# EAGLE library part LT3652 (library cube-sat)
Battery Charger
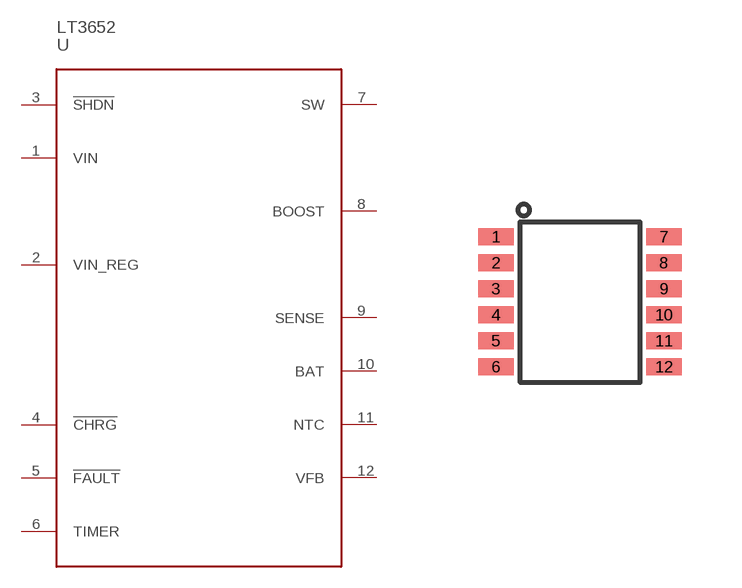
[diagram p1: symbol with the pads of LT3652; footprint LT3652]

Designator prefix U

## LT3652 (DISTPART: 505-LT3652IMSE#PBF-ND; DISTRIBUTOR: Digi-Key; MANUFACTURER: Linear Technology; MFGPART: LT3652IMSE#PBF)  [LT3652]
1  VIN
2  VIN_REG
3  !SHDN
4  !CHRG
5  !FAULT
6  TIMER
7  SW
8  BOOST
9  SENSE
10  BAT
11  NTC
12  VFB

## Footprint LT3652 (pad centres in mm)
12-Lead Plastic MSOP, 1.10 mm max height
smd 0.889 x 0.42: 1 -2.1,1.633; 2 -2.1,0.983; 3 -2.1,0.333; 4 -2.1,-0.318; 5 -2.1,-0.968; 6 -2.1,-1.617; 7 2.1,1.633; 8 2.1,0.983; 9 2.1,0.333; 10 2.1,-0.318; 11 2.1,-0.968; 12 2.1,-1.617